# Altium integrated library Actel IGLOO.IntLib: 429 symbols (part 39 of 45)

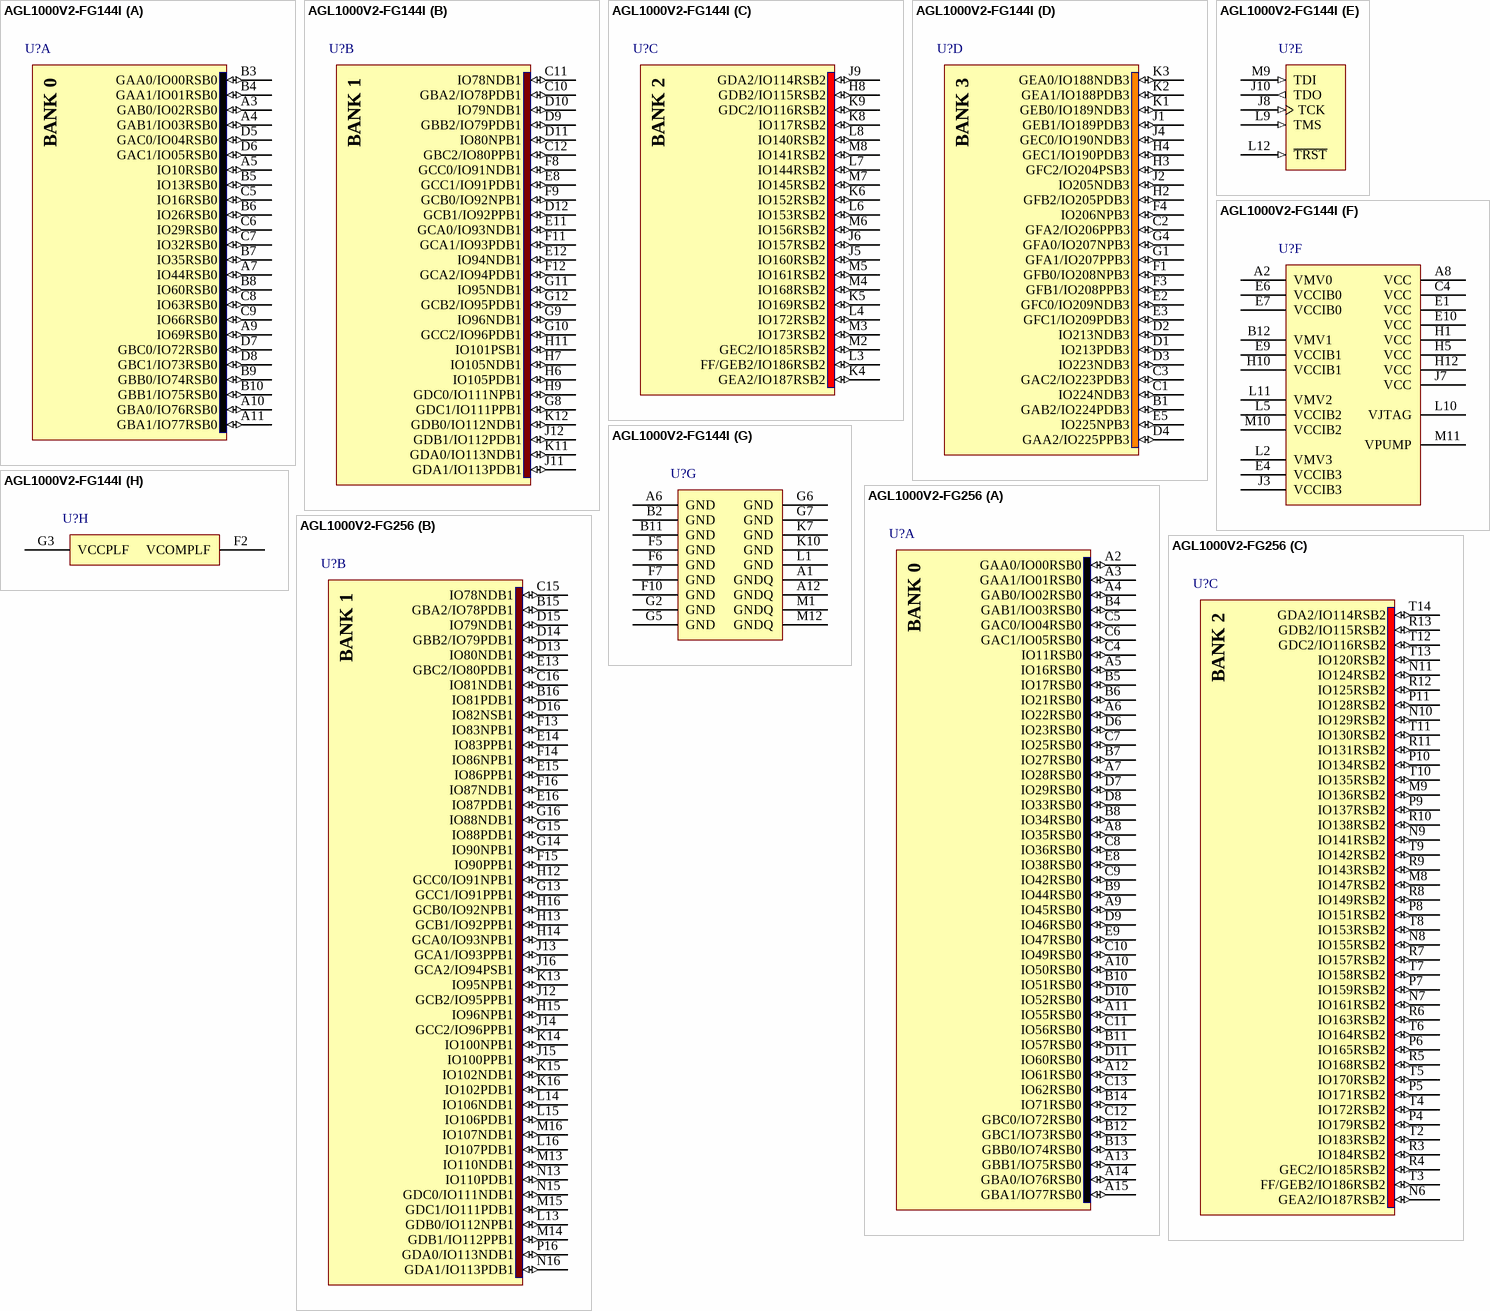
[diagram p139: symbols AGL1000V2-FG144I to AGL1000V2-FG256]

## AGL1000V2-FG144I
designator U?
IGLOO Low-Power Flash 1.2/1.5V FPGA with Flash*Freeze, 97 User IOs, 1M System Gates, 144Kbits RAM, 1Kbit Flash ROM, 1 PLL, 144-Pin FBGA, Industrial Grade; DatasheetVersion: v2.0, Nov-2009; PackageVersion: rev39, Aug-2010; PackageReference: FG144; PackageDescription: 144-Ball Fine Pitch Plastic Ball Grid Array (FG144); Code_JEDEC: MO-192-DAD-1; ComponentLink1Description: Manufacturer URL; ComponentLink1URL: http://www.actel.com/; ComponentLink2Description: IGLOO Datasheet; ComponentLink2URL: http://www.actel.com/documents/IGLOO_DS.pdf; ComponentLink3Description: Package Mechanical Drawings; ComponentLink3URL: http://www.actel.com/documents/PckgMechDrwngs.pdf; ComponentLink4Description: IGLOO Documents; ComponentLink4URL: http://www.actel.com/products/igloo/docs.aspx
footprint FG144 (BGA, 144-Leads, Body 13x13mm, Pitch 1mm)
part A pins: A3 GAB0/IO02RSB0 (io), A4 GAB1/IO03RSB0 (io), A5 IO10RSB0 (io), A7 IO44RSB0 (io), A9 IO69RSB0 (io), A10 GBA0/IO76RSB0 (io), A11 GBA1/IO77RSB0 (io), B3 GAA0/IO00RSB0 (io), B4 GAA1/IO01RSB0 (io), B5 IO13RSB0 (io), B6 IO26RSB0 (io), B7 IO35RSB0 (io), B8 IO60RSB0 (io), B9 GBB0/IO74RSB0 (io), B10 GBB1/IO75RSB0 (io), C5 IO16RSB0 (io), C6 IO29RSB0 (io), C7 IO32RSB0 (io), C8 IO63RSB0 (io), C9 IO66RSB0 (io), D5 GAC0/IO04RSB0 (io), D6 GAC1/IO05RSB0 (io), D7 GBC0/IO72RSB0 (io), D8 GBC1/IO73RSB0 (io)
part B pins: C10 GBA2/IO78PDB1 (io), C11 IO78NDB1 (io), C12 GBC2/IO80PPB1 (io), D9 GBB2/IO79PDB1 (io), D10 IO79NDB1 (io), D11 IO80NPB1 (io), D12 GCB1/IO92PPB1 (io), E8 GCC1/IO91PDB1 (io), E11 GCA0/IO93NDB1 (io), E12 IO94NDB1 (io), F8 GCC0/IO91NDB1 (io), F9 GCB0/IO92NPB1 (io), F11 GCA1/IO93PDB1 (io), F12 GCA2/IO94PDB1 (io), G8 GDC1/IO111PPB1 (io), G9 IO96NDB1 (io), G10 GCC2/IO96PDB1 (io), G11 IO95NDB1 (io), G12 GCB2/IO95PDB1 (io), H6 IO105PDB1 (io), H7 IO105NDB1 (io), H9 GDC0/IO111NPB1 (io), H11 IO101PSB1 (io), J11 GDA1/IO113PDB1 (io), J12 GDB1/IO112PDB1 (io), K11 GDA0/IO113NDB1 (io), K12 GDB0/IO112NDB1 (io)
part C pins: H8 GDB2/IO115RSB2 (io), J5 IO160RSB2 (io), J6 IO157RSB2 (io), J9 GDA2/IO114RSB2 (io), K4 GEA2/IO187RSB2 (io), K5 IO169RSB2 (io), K6 IO152RSB2 (io), K8 IO117RSB2 (io), K9 GDC2/IO116RSB2 (io), L3 FF/GEB2/IO186RSB2 (io), L4 IO172RSB2 (io), L6 IO153RSB2 (io), L7 IO144RSB2 (io), L8 IO140RSB2 (io), M2 GEC2/IO185RSB2 (io), M3 IO173RSB2 (io), M4 IO168RSB2 (io), M5 IO161RSB2 (io), M6 IO156RSB2 (io), M7 IO145RSB2 (io), M8 IO141RSB2 (io)
part D pins: B1 GAB2/IO224PDB3 (io), C1 IO224NDB3 (io), C2 GFA2/IO206PPB3 (io), C3 GAC2/IO223PDB3 (io), D1 IO213PDB3 (io), D2 IO213NDB3 (io), D3 IO223NDB3 (io), D4 GAA2/IO225PPB3 (io), E2 GFC0/IO209NDB3 (io), E3 GFC1/IO209PDB3 (io), E5 IO225NPB3 (io), F1 GFB0/IO208NPB3 (io), F3 GFB1/IO208PPB3 (io), F4 IO206NPB3 (io), G1 GFA1/IO207PPB3 (io), G4 GFA0/IO207NPB3 (io), H2 GFB2/IO205PDB3 (io), H3 GFC2/IO204PSB3 (io), H4 GEC1/IO190PDB3 (io), J1 GEB1/IO189PDB3 (io), J2 IO205NDB3 (io), J4 GEC0/IO190NDB3 (io), K1 GEB0/IO189NDB3 (io), K2 GEA1/IO188PDB3 (io), K3 GEA0/IO188NDB3 (io)
part E pins: J8 TCK (in), J10 TDO (out), L9 TMS (in), L12 ~{TRST} (in), M9 TDI (in)
part F pins: A2 VMV0 (power), A8 VCC (power), B12 VMV1 (power), C4 VCC (power), E1 VCC (power), E4 VCCIB3 (power), E6 VCCIB0 (power), E7 VCCIB0 (power), E9 VCCIB1 (power), E10 VCC (power), H1 VCC (power), H5 VCC (power), H10 VCCIB1 (power), H12 VCC (power), J3 VCCIB3 (power), J7 VCC (power), L2 VMV3 (power), L5 VCCIB2 (power), L10 VJTAG (power), L11 VMV2 (power), M10 VCCIB2 (power), M11 VPUMP (power)
part G pins: A1 GNDQ (power), A6 GND (power), A12 GNDQ (power), B2 GND (power), B11 GND (power), F5 GND (power), F6 GND (power), F7 GND (power), F10 GND (power), G2 GND (power), G5 GND (power), G6 GND (power), G7 GND (power), K7 GND (power), K10 GND (power), L1 GND (power), M1 GNDQ (power), M12 GNDQ (power)
part H pins: F2 VCOMPLF (power), G3 VCCPLF (power)
part A text: BANK 0
part B text: BANK 1
part C text: BANK 2
part D text: BANK 3

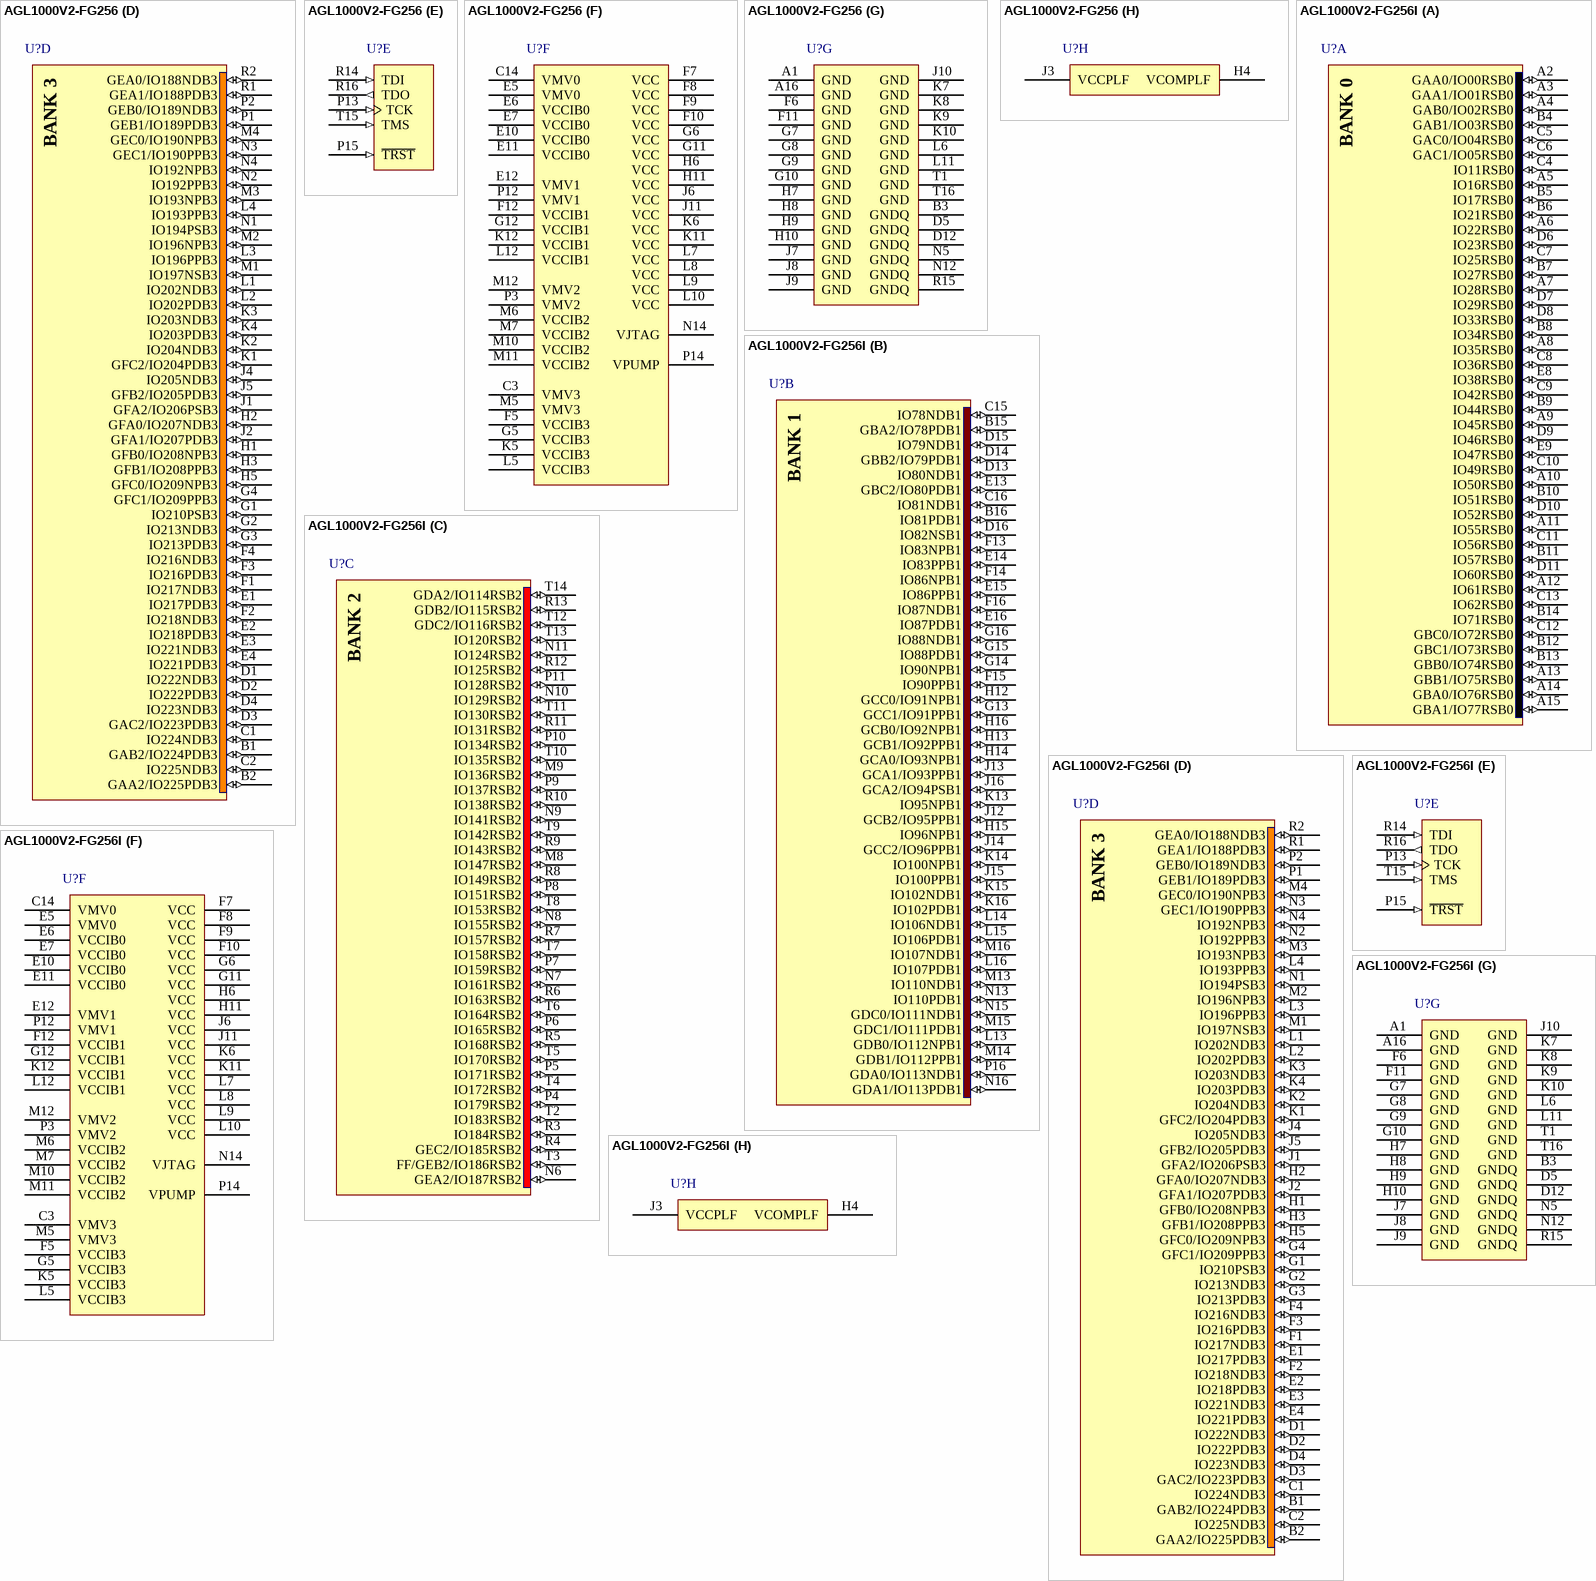
[diagram p140: symbols AGL1000V2-FG256 to AGL1000V2-FG256I]